# Altium schematic symbol library Sensors, Transducers.SchLib: 23 symbols
Pins are listed as number, name and electrical type; pins without a type are passive.

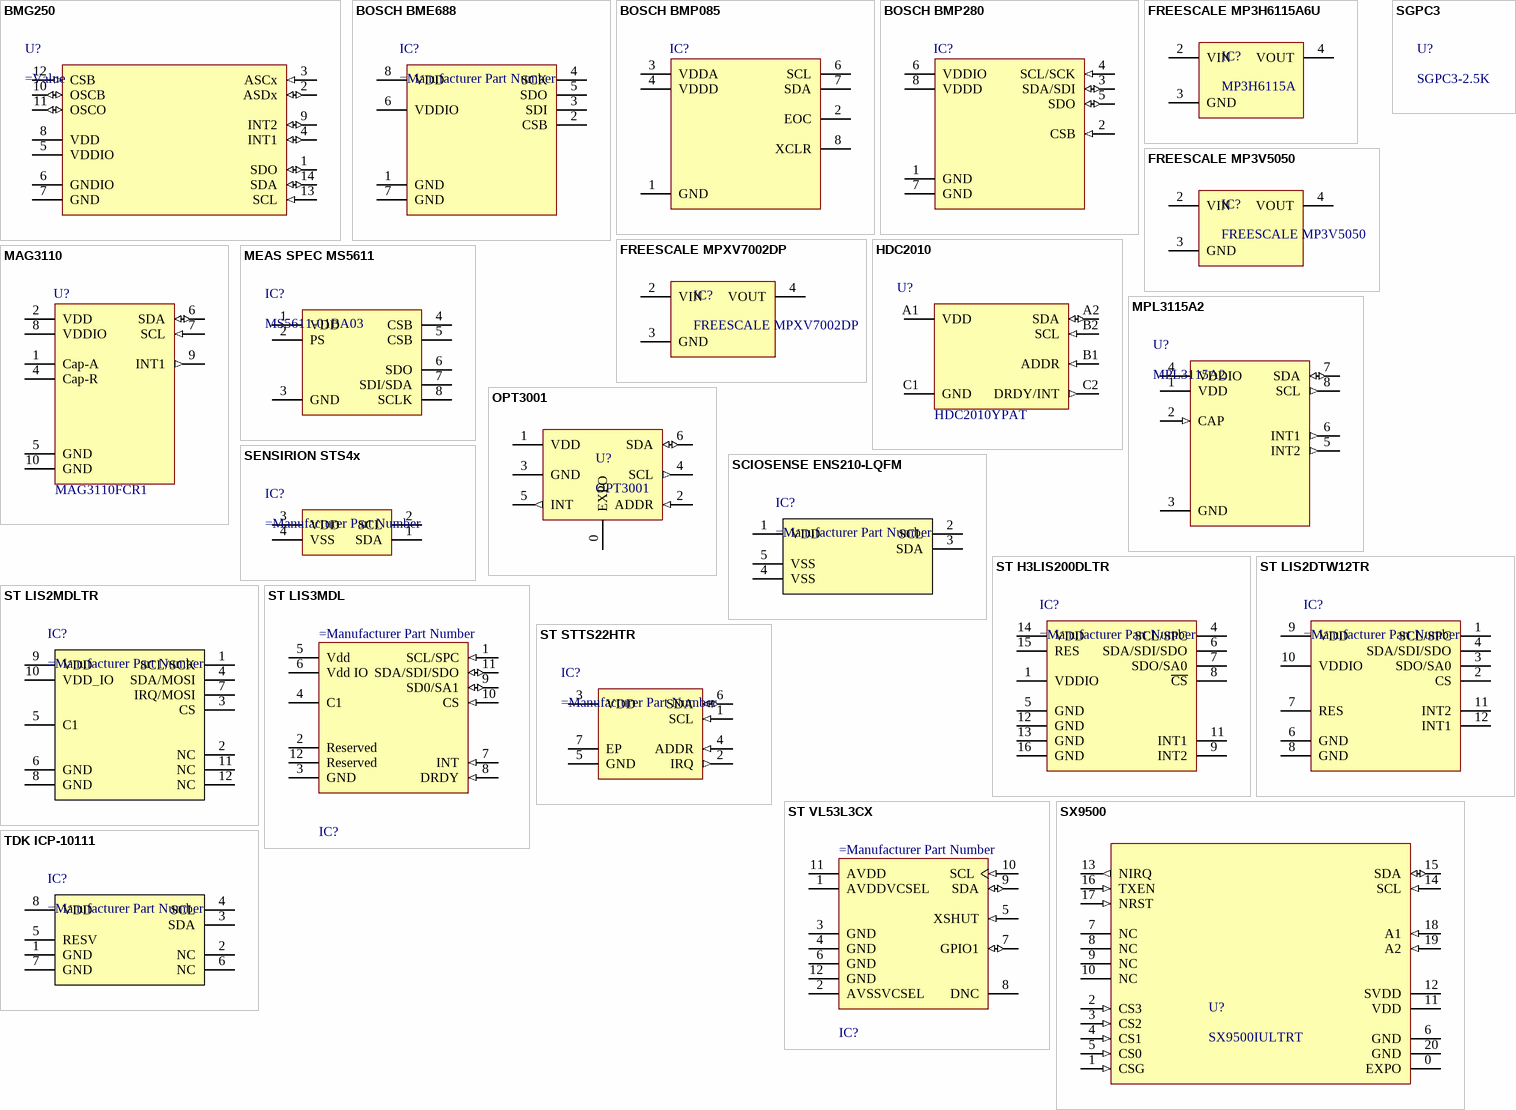
[diagram p0: symbols BMG250 to TDK ICP-10111]

## BMG250
designator U?
GYROSCOPE 3-AXIS SPI/I2C SMD; MPN: BMG250; Manufacturer: Bosch Sensortec; SPN: 828-1065-1-ND; Axis: X, Y, Z; Range °/s: ±125, 250, 500, 1000, 2000; Sensitivity (LSB/(°/s)): 16.4 ~ 262.4; Bandwidth: 25Hz ~ 3200Hz; Output Type: I²C, SPI; Voltage - Supply: 1.71 V ~ 3.6 V; Current - Supply: 850µA; Packaging: Alternate Packaging; Type: Digital; Features: Adjustable Bandwidth, Selectable Scale, Sleep Mode; Operating Temperature: -40°C ~ 85°C; Package / Case: 14-LGA; Price: $4.19000
footprint BOSCH BMG250
pins: 1 SDO (io), 2 ASDx (io), 3 ASCx (in), 4 INT1 (io), 5 VDDIO (power), 6 GNDIO (power), 7 GND (power), 8 VDD (power), 9 INT2 (io), 10 OSCB (io), 11 OSCO (io), 12 CSB (in), 13 SCL (in), 14 SDA (io)

## BOSCH BME688
designator IC?
Digital low power gas, pressure, temperature & humidity sensor with AI; Manufacturer_Name: BOSCH; Manufacturer_Part_Number: BME688; Datasheet Link: https://www.bosch-sensortec.com/media/boschsensortec/downloads/datasheets/bst-bme688-ds000.pdf; Height: 1mm; Mouser Part Number: 262-BME688; Mouser Price/Stock: https://www.mouser.co.uk/ProductDetail/Bosch-Sensortec/BME688?qs=IS%252B4QmGtzzqQoVDscqwx3A%3D%3D; Arrow Part Number: BME688; Arrow Price/Stock: https://www.arrow.com/en/products/bme688/bosch-sensortec?utm_currency=USD&region=nac
footprint BOSCH BME688-8 3x3mm
pins: 1 GND, 2 CSB, 3 SDI, 4 SCK, 5 SDO, 6 VDDIO, 7 GND, 8 VDD

## BOSCH BMP085
designator IC?
Bosch BMP085 Digital pressure sensor
pins: 1 GND "Desc1", 2 EOC "Desc1", 3 VDDA "Desc1", 4 VDDD "Desc1", 6 SCL "Desc1", 7 SDA "Desc1", 8 XCLR "Desc1"

## BOSCH BMP280
designator IC?
Bosch BMP085 Digital pressure sensor; Manufacturer: Bosch Sensortec; Satıcı: Digikey; Output Type: I²C, SPI; Sensitivity: ±*; Voltage - Supply: 2.16 V ~ 3.6 V; Sensor Type: Humidity, Pressure, Temperature; Humidity Range: 0 ~ 100% RH; Output: 16b; Accuracy: ±3%; Response Time: 1s; Depo Kodu: *; Package: *; Satın Alma Linki: *; Datasheet: *; Manufacturer Code: BMP085; Suplier Code: *; Series: *; Operating Temperature: -30°C ~ 85°C (TA); Mounting Type: Surface Mount
footprint BOSCH BME280 (Bosch BME280 digital pressure sensor)
pins: 1 GND (power) "Desc1", 2 CSB (in) "Desc1", 3 SDA/SDI (io) "Desc1", 4 SCL/SCK (in) "Desc1", 5 SDO (io) "Desc1", 6 VDDIO (power) "Desc1", 7 GND (power) "Desc1", 8 VDDD (power) "Desc1"

## FREESCALE MP3H6115A6U
designator IC?, comment MP3H6115A
High Temperature Accuracy  Integrated Silicon Pressure Sensor  for Measuring Absolute Pressure,  On-Chip Signal Conditioned,  Temperature Compensated and  Calibrated
pins: 2 VIN, 3 GND, 4 VOUT

## FREESCALE MP3V5050
designator IC?
0 to 50 kPa, Differential,  and Gauge Pressure Sensor
pins: 2 VIN, 3 GND, 4 VOUT

## FREESCALE MPXV7002DP
designator IC?
High Temperature Accuracy  Integrated Silicon Pressure Sensor  for Measuring Absolute Pressure,  On-Chip Signal Conditioned,  Temperature Compensated and  Calibrated
pins: 2 VIN, 3 GND, 4 VOUT

## HDC2010
designator U?, comment HDC2010YPAT
Low Power Humidity and Temperature Digital Sensors; Manufacturer: Texas Instruments; SPN: 296-47096-1-ND; Sensor Type: Humidity, Temperature; Humidity Range: 0 ~ 100% RH; Output Type: I²C; Accuracy: ±2%; Response Time: 8s; Voltage - Supply: 1.62 V ~ 3.6 V; Price: $3.75000; Packaging: Cut Tape (CT); Mounting Type: Surface Mount; Operating Temperature: -40°C ~ 85°C; MPN: HDC2010YPAT
footprint HDC2010
pins: A1 VDD (power), A2 SDA (io), B1 ADDR (in), B2 SCL (in), C1 GND (power), C2 DRDY/INT (out)

## MAG3110
designator U?, comment MAG3110FCR1
Xtrinsic MAG3110 Three-Axis, Digital  Magnetometer; Manufacturer: NXP USA Inc.; Voltage - Supply: 1.9 V ~ 3.6 V; SPN: MAG3110FCR1TR-ND; Output Type: I²C; Sensing Range: ±1mT; Packing: Cut Type (CT); Birim Fiyat: 2,12; Axis: X, Y, Z; Current - Supply (Max): 900µA; Package / Case: 10-DFN; Satın Alma Linki: https://www.digikey.com/product-detail/en/nxp-usa-inc/MAG3110FCR1/MAG3110FCR1CT-ND/3524267; Supplier: Digikey; Series: *; Type: Compass/Magnetometer; Technology: Magnetorsistive; Resolution: *; Operating Temperature: -40°C ~ 85°C (TA); Depo Kodu: *; Doc-Datasheet: https://media.digikey.com/pdf/Data%20Sheets/NXP%20PDFs/MAG3110.pdf; Current - Output (Max): *; Bandwidth: *; Features: Temperature Compensated; MPN: MAG3110FCR1
footprint dfn-10 (2x2 mm body size, 0,4mm pitch, 0,25mm width, 0,5mm length)
pins: 1 Cap-A (power), 2 VDD (power), 3 NC hidden, 4 Cap-R (power), 5 GND (power), 6 SDA (io), 7 SCL (in), 8 VDDIO (power), 9 INT1 (out), 10 GND (power)

## MEAS SPEC MS5611
designator IC?, comment MS5611-01BA03
pins: 1 VDD "Positive supply voltage", 2 PS "Protocol select - PS high I2C, PS low SPI", 3 GND "Ground", 4 CSB "Chip select", 5 CSB "Chip select", 6 SDO "Serial data output", 7 SDI/SDA "Serial Data input/I2C data IO", 8 SCLK "Serial Data Clock"

## MPL3115A2
designator U?
IC ALTIMETER I2C VERSION 8LGA; Manufacturer: NXP USA Inc.; SPN: MPL3115A2-ND; Pressure Type: Absolute; Operating Pressure: 7.25 PSI ~ 15.95 PSI (50 kPa ~ 110 kPa); Output Type: I²C; Output: 24 b; Accuracy: ±0.058 PSI (±0.4 kPa); Voltage - Supply: 1.95 V ~ 3.6 V; Maximum Pressure: 72.52 PSI (500 kPa); MPN: MPL3115A2; Price: $4.32000; Features: Temperature Compensated; Operating Temperature: -40°C ~ 85°C; Package / Case: 8-TLGA; Value: MPL3115A2
footprint MPL3115A2
pins: 1 VDD (power), 2 CAP (in), 3 GND (power), 4 VDDIO (power), 5 INT2 (out), 6 INT1 (out), 7 SDA (io), 8 SCL (out)

## OPT3001
designator U?
Texas Instruments Ambient Light Sensor (ALS); MPN: OPT3001DNPR; SPN: 296-40474-1-ND; Proximity Detection: NO; Output Type: I²C; Voltage - Supply: 1.6 V ~ 3.6 V; Mounting Type: Surface Mount; Operating Temperature: -40°C ~ 85°C; Price: $3.43000; Type: Ambient; Series: -; Value: OPT3001; Manufacturer: Texas Instruments; Packaging: Cut Tape (CT)
footprint OPT3001
pins: 0 EXPO, 1 VDD (power), 2 ADDR (in), 3 GND (power), 4 SCL (out), 5 INT (out), 6 SDA (io)

## SCIOSENSE ENS210-LQFM
designator IC?
Relative Humidity and Temperature Sensor with I²C Interface
footprint SCIONSENSE ENS210LQFM (The ENS210 has QFN4 package: plastic thermal enhanced very thin small outline package; no  leads; 4 terminals; body 2.0 x 2.0 x 0.75mm)
pins: 1 VDD, 2 SCL, 3 SDA, 4 VSS, 5 VSS

## SENSIRION STS4x
designator IC?
4th Generation, High-Accuracy, Ultra-Low-Power, 16-bit Temperature Sensor Platform
footprint SENSORION DFN-4 1.5x1.5mm
pins: 1 SDA, 2 SCL, 3 VDD, 4 VSS

## SGPC3
designator U?, comment SGPC3-2.5K
AIR QUALITY GAS SENSOR LOW POWER; Manufacturer: Sensirion AG; SPN: 1649-1095-1-ND; Accuracy: ±15%; Output: I²C; Voltage - Supply: 1.62 V ~ 1.98 V; Current - Supply: 1mA; MPN: SGPC3-2.5K; Price: $13.57000; Type: Air Quality; Operating Temperature: -40°C ~ 85°C
footprint Sensirion SGPC3
1 alternate drawing of the same symbol

## ST H3LIS200DLTR
designator IC?
MEMS motion sensor: low-power high-g 3-axis digital accel
footprint ST LGA-16 3x3mm
pins: 1 VDDIO, 4 SCL/SPC, 5 GND, 6 SDA/SDI/SDO, 7 SDO/SA0, 8 ~{CS}, 9 INT2, 11 INT1, 12 GND, 13 GND, 14 VDD, 15 RES, 16 GND

## ST LIS2DTW12TR
designator IC?
Accelerometer
footprint ST LGA-12 2x2x0.7 (LGA-12 2.0 x 2.0 x 0.7 mm)
pins: 1 SCL/SPC, 2 CS, 3 SDO/SA0, 4 SDA/SDI/SDO, 6 GND, 7 RES, 8 GND, 9 VDD, 10 VDDIO, 11 INT2, 12 INT1

## ST LIS2MDLTR
designator IC?
Digital output magnetic sensor: ultra-low-power, high-performance 3-axis magnetometer
footprint ST LGA-12 2x2x0.7 (LGA-12 2.0 x 2.0 x 0.7 mm)
pins: 1 SCL/SCK, 2 NC, 3 CS, 4 SDA/MOSI, 5 C1, 6 GND, 7 IRQ/MOSI, 8 GND, 9 VDD, 10 VDD_IO, 11 NC, 12 NC

## ST LIS3MDL
designator IC?
SENSOR MR I2C/SPI 12LGA
footprint ST VFLGA-12 2x2x1
pins: 1 SCL/SPC (in), 2 Reserved, 3 GND (power), 4 C1, 5 Vdd (power), 6 Vdd IO (power), 7 INT (in), 8 DRDY (in), 9 SD0/SA1 (io), 10 CS (in), 11 SDA/SDI/SDO (io), 12 Reserved

## ST STTS22HTR
designator IC?
Low-voltage, ultra-low-power, 0.5 °C accuracy I²C/SMBus 3.0 temperature sensor
footprint ST UDFN-6 2x2x0.5 (UDFN-6L (2.0 x 2.0 x 0.50 mm))
pins: 1 SCL (in), 2 IRQ (out), 3 VDD (power), 4 ADDR (in), 5 GND (power), 6 SDA (io), 7 EP (power)

## ST VL53L3CX
designator IC?
Time-of-Flight ranging sensor with multi target detection.
footprint ST LGA-12 4.4x2.4x1mm
pins: 1 AVDDVCSEL (power), 2 AVSSVCSEL (power), 3 GND (power), 4 GND (power), 5 XSHUT (in), 6 GND (power), 7 GPIO1 (io), 8 DNC, 9 SDA (io), 10 SCL (in), 11 AVDD (power), 12 GND (power)

## SX9500
designator U?, comment SX9500IULTRT
Ultra Low Power, Four Channels  Capacitive Proximity/Button Solution; SPN: SX9500IULTRTCT-ND; Proximity Detection: Yes; Number of Inputs: 4; Interface: I²C; Resolution: 8 b; Voltage - Supply: 2.7 V ~ 5.5 V; Current - Supply: 170µA; MPN: SX9500IULTRT; Price: $1.62000; Packaging: Cut Tape (CT); Type: Buttons; Operating Temperature: -40°C ~ 85°C; Package / Case: 20-UFQFN
footprint SX9500
pins: 0 EXPO (power), 1 CSG (in), 2 CS3 (in), 3 CS2 (in), 4 CS1 (in), 5 CS0 (in), 6 GND (power), 7 NC, 8 NC, 9 NC, 10 NC, 11 VDD (power), 12 SVDD (power), 13 NIRQ (out), 14 SCL (in), 15 SDA (io), 16 TXEN (in), 17 NRST (in), 18 A1 (in), 19 A2 (in), 20 GND (power)

## TDK ICP-10111
designator IC?
High Accuracy, Low Power, Waterproof Barometric Pressure and Temperature Sensor IC
footprint TDK ICP10111 (ICP-10110 and ICP-10111: 2x2.5x0.92 mm 8-pin LGA)
pins: 1 GND, 2 NC, 3 SDA, 4 SCL, 5 RESV, 6 NC, 7 GND, 8 VDD